# Altium footprint library CONN-SPE_TEM-0105-02-07-X-D-X.PcbLib: 1 footprints
Each footprint in its own frame and in the unit in brackets; x right, y up, seen from the top. Pads: shape width x height; smd on the part's side, far side on the other; paste and mask are expansions set on the pad; w line width, h text height; cw(c..) or ccw(c..) is an arc to the next point about the centre after c.
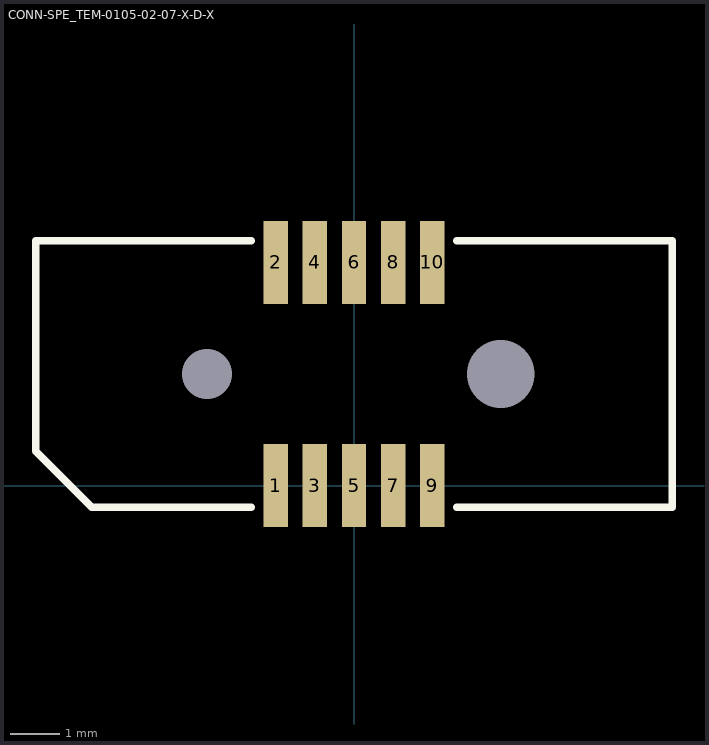
[diagram p0: the footprint, top view; thin cyan lines are the x and y axes]

## CONN-SPE_TEM-0105-02-07-X-D-X [mm]
pads (12):
  round 0 hole 1.02: 0(-3,2.28)
  round 0 hole 1.38: 0(3,2.28)
  rect 0.5x1.69 smd: 1(-1.6,0) 2(-1.6,4.56) 3(-0.8,0) 4(-0.8,4.56) 5(0,0) 6(0,4.56) 7(0.8,0) 8(0.8,4.56) 9(1.6,0) 10(1.6,4.56)
Top Overlay:
  lines w0.15: -2.1,-0.44 -5.36,-0.44 -6.5,0.7 -6.5,5 -2.1,5 ; 2.1,-0.44 6.5,-0.44 6.5,5 2.1,5
3D body: height 9.57, standoff 0, extent -6.5,-0.5 6.5,5.001